# EAGLE library part USB-ESD (library phone-finder)
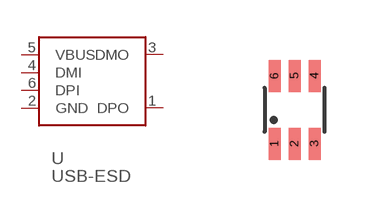
[diagram p1: symbol with the pads of SOT-563; footprint SOT-563]

Designator prefix -

## USB-ESD  [SOT-563]
1  DPO  pas
2  GND  pwr
3  DMO  pas
4  DMI  pas
5  VBUS  pwr
6  DPI  pas

## Footprint SOT-563 (pad centres in mm)
SOT-563, 6 LEAD CASE 463A-01 ISSUE F Source: U6 OnSemi Inductive Load Driver MDC3105-D.PDF
smd 0.3 x 0.8: 1 -0.5,-0.85; 2 0,-0.85; 3 0.5,-0.85; 4 0.5,0.85; 5 0,0.85; 6 -0.5,0.85